# Altium schematic symbol library LP29.SchLib: 4 symbols
Pins are listed as number, name and electrical type; pins without a type are passive.

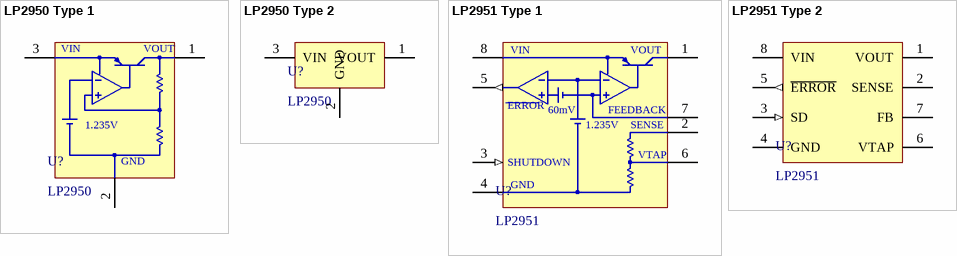
[diagram p0: symbols LP2950 Type 1 to LP2951 Type 2]

## LP2950 Type 1
designator U?, comment LP2950
Micropower Voltage Regulators with Shutdown
footprint TO-92 BENT (BENT LEAD)
footprint TO-92 STRAIGHT (STRAIGHT LEAD)
pins: 1 (power), 2 (power), 3 (power)
text: VIN; VOUT; 1.235V; GND

## LP2950 Type 2
designator U?, comment LP2950
Micropower Voltage Regulators with Shutdown
footprint TO-92 BENT (BENT LEAD)
footprint TO-92 STRAIGHT (STRAIGHT LEAD)
pins: 1 VOUT (power), 2 GND (power), 3 VIN (power)

## LP2951 Type 1
designator U?, comment LP2951
Micropower Voltage Regulators with Shutdown
footprint SOIC8
pins: 1 VOUT (power), 2 SENSE, 3 SHUTDOWN (in), 4 GND (power), 5 ~{ERROR} (out), 6 VTAP, 7 FEEDBACK, 8 VIN (power)
text: ERROR; 60mV; 1.235V

## LP2951 Type 2
designator U?, comment LP2951
Micropower Voltage Regulators with Shutdown
footprint SOIC8
pins: 1 VOUT (power), 2 SENSE, 3 SD (in), 4 GND (power), 5 ~{ERROR} (out), 6 VTAP, 7 FB, 8 VIN (power)